# Altium schematic symbol library TI Power Management DC-DC Controller (External Switch).SchLib: 349 symbols (part 24 of 26)
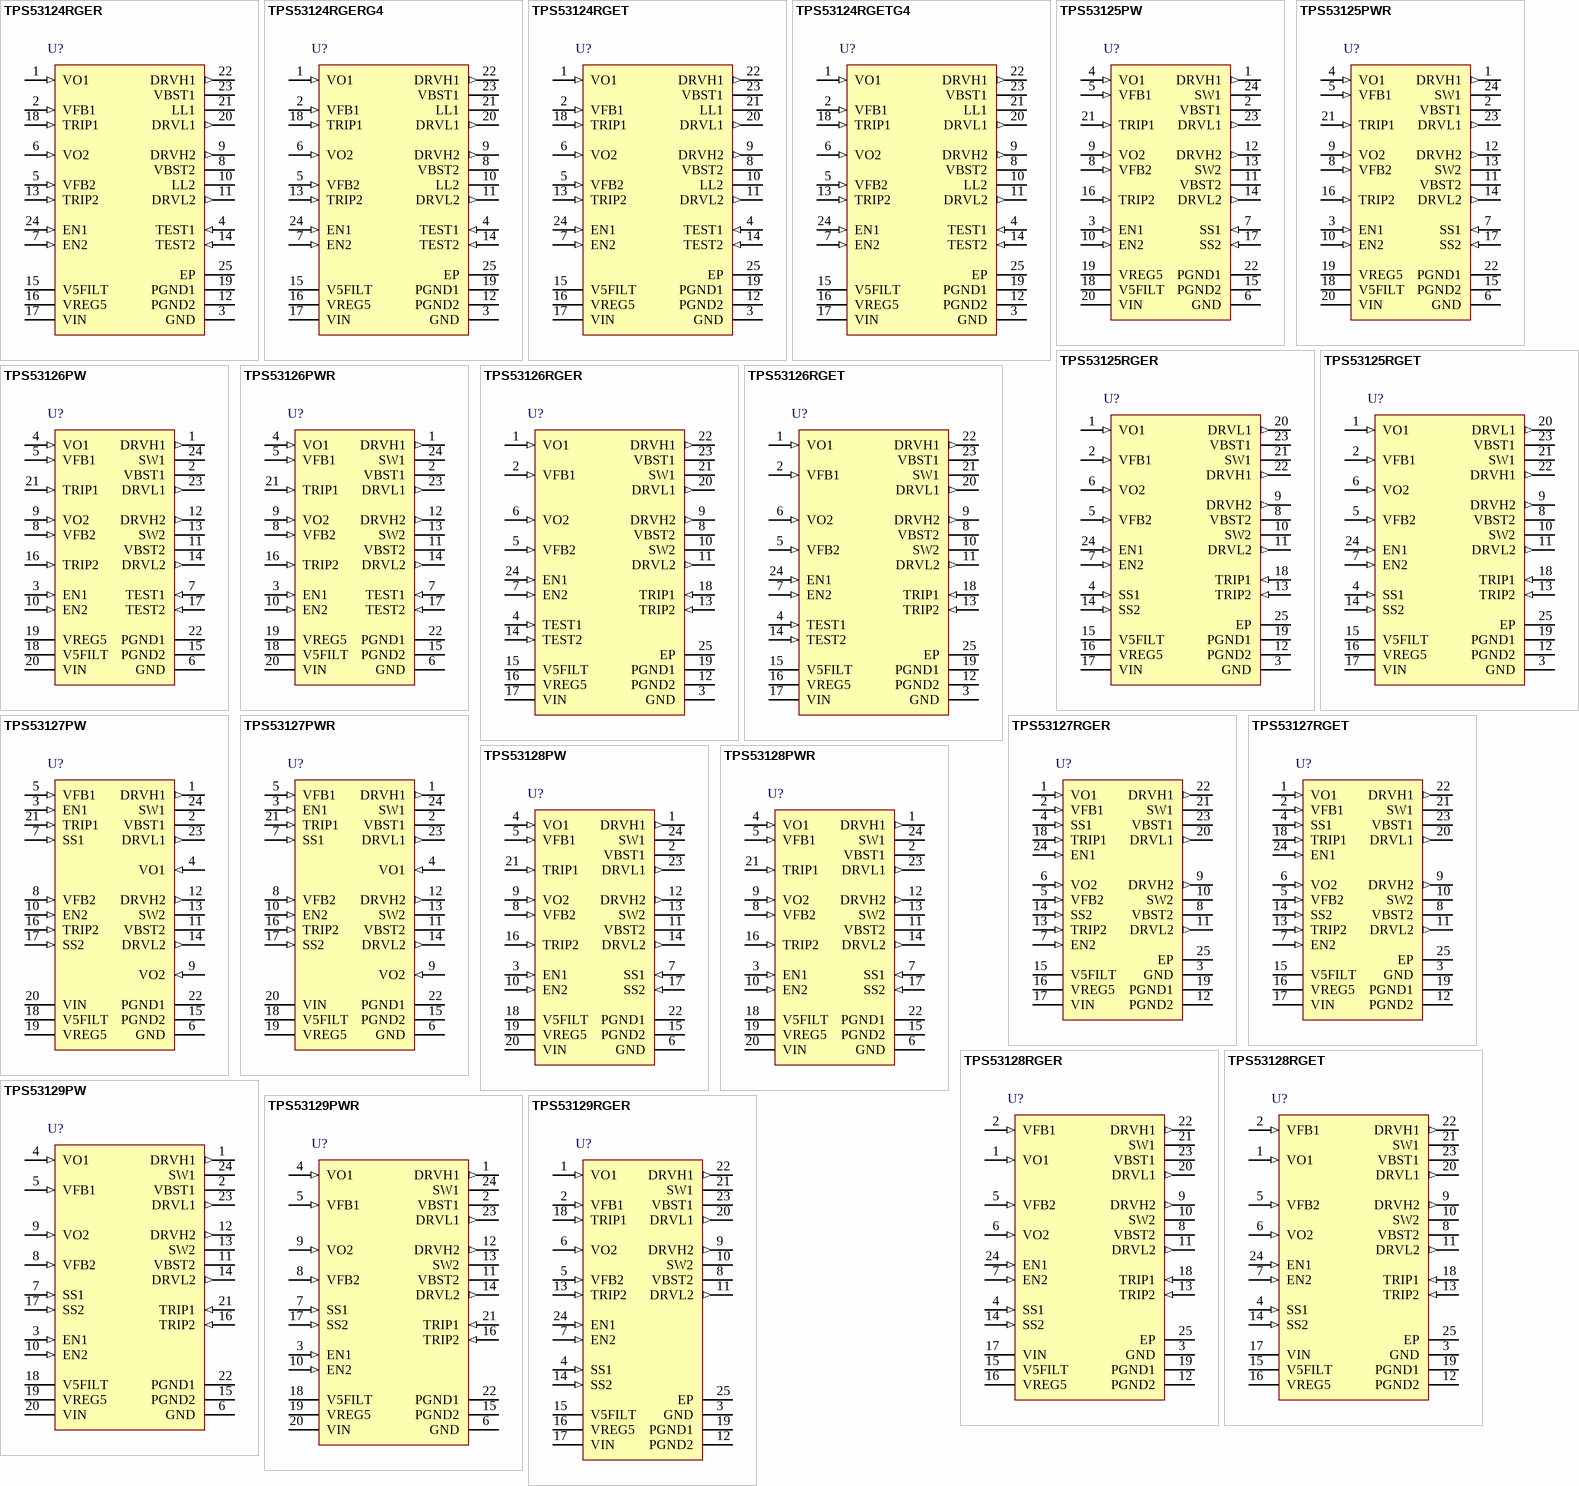
[diagram p37: symbols TPS53124RGER to TPS53129RGER]

## TPS53129PWR
designator U?
Dual Synchronous Step-Down Controller for Low Voltage Power Rails, 89 % Duty Cycle, 4.5 to 24 V, -40 to 85 degC, 24-pin TSSOP (PW), Green (RoHS & no Sb/Br); Manufacturer: Texas Instruments; PartNumber: TPS53129PWR; Duty Cycle(Max)(%): 89; Iout(Max)(A): 15; Regulated Outputs(#): 2; SubFamily: Multiple-Output Switching Controller; Switching Frequency(Max)(kHz): 700; Synchronous Rectification: TRUE; Topology: Buck, D-CAP 2 Mode"; Vin(Max)(V): 24; Vin(Min)(V): 4.5; Vout(Max)(V): 5.5; Vout(Min)(V): 0.76; DatasheetVersion: SLVSAE6; PackageVersion: revG, Feb-2011; PackageReference: PW24; PackageDescription: 24-Pin Thin Small Outline Package 0.65 mm Pitch; Supplier 1: Digi-Key; Supplier Part Number 1: 296-27799-2-ND; Eco-Plan: Green (RoHS & no Sb/Br); Iout2(A): 15; Vout2(Max)(V): 5.5; Vout2(Min)(V): 0.76; Mounting Technology: Surface Mount; Code_JEDEC: MO-153; ComponentLink1Description: Datasheet; ComponentLink1URL: http://www.ti.com/general/docs/lit/getliterature.tsp?genericPartNumber=TPS53129&fileType=pdf; ComponentLink2Description: Package Specification; ComponentLink2URL: http://www.ti.com/litv/pdf/mpds177g
footprint PW24_N (TSOP, 24-Leads, Body 7.8x4.4mm, Pitch 0.65mm, IPC Medium Density)
footprint PW24_L (TSOP, 24-Leads, Body 7.8x4.4mm, Pitch 0.65mm, IPC High Density)
footprint PW24_M (TSOP, 24-Leads, Body 7.8x4.4mm, Pitch 0.65mm, IPC Low Density)
pins: 1 DRVH1 (out) "High-side N-Channel MOSFET gate driver outputs. SWx referenced drivers  switch between SWx (OFF) and VBSTx (ON)", 2 VBST1 (power) "Supply input for high-side NFET driver .Bypass to SWx with a high-qualoty 0.1-uF ceramic capacitor ,An external schlttky diode can be added from VREG5 if forward drop is critical to drive the high-side FET.", 3 EN1 (in) "Enable. Pull High to enable SMPS.", 4 VO1 (in) "Output voltage input  for on-time adjustment and output discharge. Connect directly to the output voltage.", 5 VFB1 (in) "D-CAP2 feedback input. Connect to output voltage with resistor divider.", 6 GND (power) "Signal ground pin. Connect to PGND1, PGND2 and system ground at a single point.", 7 SS1 (in) "Soft-start programming pin. Connect capacitor from SSx pin to GND to program soft-start time.", 8 VFB2 (in) "D-CAP2 feedback input. Connect to output voltage with resistor divider.", 9 VO2 (in) "Output voltage input for on-time adjustment and output discharge. Connect directly to the output voltage.", 10 EN2 (in) "Enable. Pull High to enable SMPS.", 11 VBST2 (power) "Supply input for high-side NFET driver .Bypass to SWx with a high-qualoty 0.1-uF ceramic capacitor ,An external schlttky diode can be added from VREG5 if forward drop is critical to drive the high-side FET.", 12 DRVH2 (out) "High-side N-Channel MOSFET gate driver outputs. SWx referenced drivers switch between SWx (OFF) and VBSTx (ON)", 13 SW2 (power) "Switch node connections for both the high-side drivers and the over current comparators.", 14 DRVL2 (out) "Low-side N-Channel MOSFET gate driver output. PGND referenced drivers  switch between PGNDx (OFF) and VREG5 (ON).", 15 PGND2 (power) "Power ground connections for both the low-side driver and the over current comparator. Connect PGND1,PGND2,and GND strongly tigether near the IC.", 16 TRIP2 (in) "Over current threshold programming pin. Connect to GND with a resistor to  GND to set threshold for low-side RDS(ON) current limit.", 17 SS2 (in) "Soft-start programming pin. Connect capacitor from SSx pin to GND to program soft-start time.", 18 V5FILT (power) "5-V supply input for the entire control circuitry except the MOSFET drivers.V5FILT 15 18 I Bypass to GND with a minimum high-quality 1.0-uF ceramic capacitor. V5FILT is connected to VREG5 via an internal 10-ohm resistor", 19 VREG5 (power) "Output of 5-V linear regulator and supply for MOSFET drivers. Bypass to GND with a minimum high-quality 4.7-uF ceramic capacitor. VREG5 is connected toV5FILT via an internal 10-ohm resistor", 20 VIN (power) "Supply input for 5-V linear regulartor. Bypass to GND with a minimum high-quality 0.1-uF ceramic capacitor.", 21 TRIP1 (in) "Over current threshold programming pin. Connect to GND with a resistor to GND to set threshold for low-side RDS(ON) current limit.", 22 PGND1 (power) "Power ground connections for both the low-side driver and the over current comparator. Connect PGND1,PGND2,and GND strongly tigether near the IC.", 23 DRVL1 (out) "Low-side N-Channel MOSFET gate driver output. PGND referenced drivers  switch between PGNDx (OFF) and VREG5 (ON).", 24 SW1 (power) "Switch node connections for both the high-side drivers and the over current comparators."

## TPS53129RGER
designator U?
Dual Synchronous Step-Down Controller for Low Voltage Power Rails, 89 % Duty Cycle, 4.5 to 24 V, -40 to 85 degC, 24-pin VQFN (RGE), Green (RoHS & no Sb/Br); Manufacturer: Texas Instruments; PartNumber: TPS53129RGER; Duty Cycle(Max)(%): 89; Iout(Max)(A): 15; Regulated Outputs(#): 2; SubFamily: Multiple-Output Switching Controller; Switching Frequency(Max)(kHz): 700; Synchronous Rectification: TRUE; Topology: Buck, D-CAP 2 Mode"; Vin(Max)(V): 24; Vin(Min)(V): 4.5; Vout(Max)(V): 5.5; Vout(Min)(V): 0.76; DatasheetVersion: SLVSAE6; PackageVersion: revG, Jul-2011; PackageReference: RGE24-2450X2450TP; PackageDescription: 24-Pin Plastic Quad Flatpack No-Lead, 4 x 4 mm Body, 0.5 mm Pitch; Supplier 1: Digi-Key; Supplier Part Number 1: 296-27800-2-ND; Eco-Plan: Green (RoHS & no Sb/Br); Iout2(A): 15; Vout2(Max)(V): 5.5; Vout2(Min)(V): 0.76; Mounting Technology: Surface Mount; Code_JEDEC: MO-220; ComponentLink1Description: Datasheet; ComponentLink1URL: http://www.ti.com/general/docs/lit/getliterature.tsp?genericPartNumber=TPS53129&fileType=pdf; ComponentLink2Description: Package Specification; ComponentLink2URL: http://www.ti.com/litv/pdf/mpqf124f
footprint RGE24-2450X2450TP (QFN, 24-Leads, Body 4x4mm, Pitch 0.5mm, Thermal Pad 2.45x2.45mm, TI Recommended)
pins: 1 VO1 (in) "Output voltage inputs for on-time adjustment and output discharge. Connect directly to the output voltage.", 2 VFB1 (in) "D-CAP2 feedback inputs. Connect to output voltage with resistor divider.", 3 GND (power) "Signal ground pin. Connect to PGND1, PGND2 and system ground at a single point.", 4 SS1 (in) "Soft-start programming pin. Connect capacitor from SSx pin to GND to program soft-start time.", 5 VFB2 (in) "D-CAP2 feedback inputs. Connect to output voltage with resistor divider.", 6 VO2 (in) "Output voltage inputs for on-time adjustment and output discharge. Connect directly to the output voltage.", 7 EN2 (in) "Enable. Pull High to enable SMPS.", 8 VBST2 (power) "Supply input for high-side NFET driver. Bypass to SWx with a high-quality 0.1-uF ceramic capacitor. An external schottky diode can be added from VREG5 if forward drop is critical to drive the high-side FET.", 9 DRVH2 (out) "High-side N-Channel MOSFET gate driver outputs. SWx referenced drivers switch between SWx (OFF) and VBSTx (ON).", 10 SW2 (power) "Switch node connections for both the high-side drivers and the over current comparators.", 11 DRVL2 (out) "Low-side N-Channel MOSFET gate driver outputs. PGND referenced drivers switch between PGNDx (OFF) and VREG5 (ON).", 12 PGND2 (power) "Power ground connections for both the low-side drivers and the over current comparators. Connect PGND1, PGND2 and GND strongly together near the IC.", 13 TRIP2 (in) "Over current threshold programming pin. Connect to GND with a resistor to GND to set threshold for low-side RDS(ON) current limit.", 14 SS2 (in) "Soft-start programming pin. Connect capacitor from SSx pin to GND to program soft-start time.", 15 V5FILT (power) "5-V supply input for the entire control circuitry except the MOSFET drivers. Bypass to GND with a minimum high-quality 1.0-uF ceramic capacitor. V5FILT is connected to VREG5 via an internal 10-ohm resistor.", 16 VREG5 (power) "Output of 5-V linear regulator and supply for MOSFET drivers. Bypass to GND with a minimum high-quality 4.7-uF ceramic capacitor. VREG5 is connected to V5FILT via an internal 10-ohm resistor.", 17 VIN (power) "Supply Input for 5-V linear regulator. Bypass to GND with a minimum high-quality 0.1-uF ceramic capacitor.", 18 TRIP1 (in) "Over current threshold programming pin. Connect to GND with a resistor to GND to set threshold for low-side RDS(ON) current limit.", 19 PGND1 (power) "Power ground connections for both the low-side drivers and the over current comparators. Connect PGND1, PGND2 and GND strongly together near the IC.", 20 DRVL1 (out) "Low-side N-Channel MOSFET gate driver outputs. PGND referenced drivers switch between PGNDx (OFF) and VREG5 (ON).", 21 SW1 (power) "Switch node connections for both the high-side drivers and the over current comparators.", 22 DRVH1 (out) "High-side N-Channel MOSFET gate driver outputs. SWx referenced drivers switch between SWx (OFF) and VBSTx (ON).", 23 VBST1 (power) "Supply input for high-side NFET driver. Bypass to SWx with a high-quality 0.1-uF ceramic capacitor. An external schottky diode can be added from VREG5 if forward drop is critical to drive the high-side FET.", 24 EN1 (in) "Enable. Pull High to enable SMPS.", 25 EP

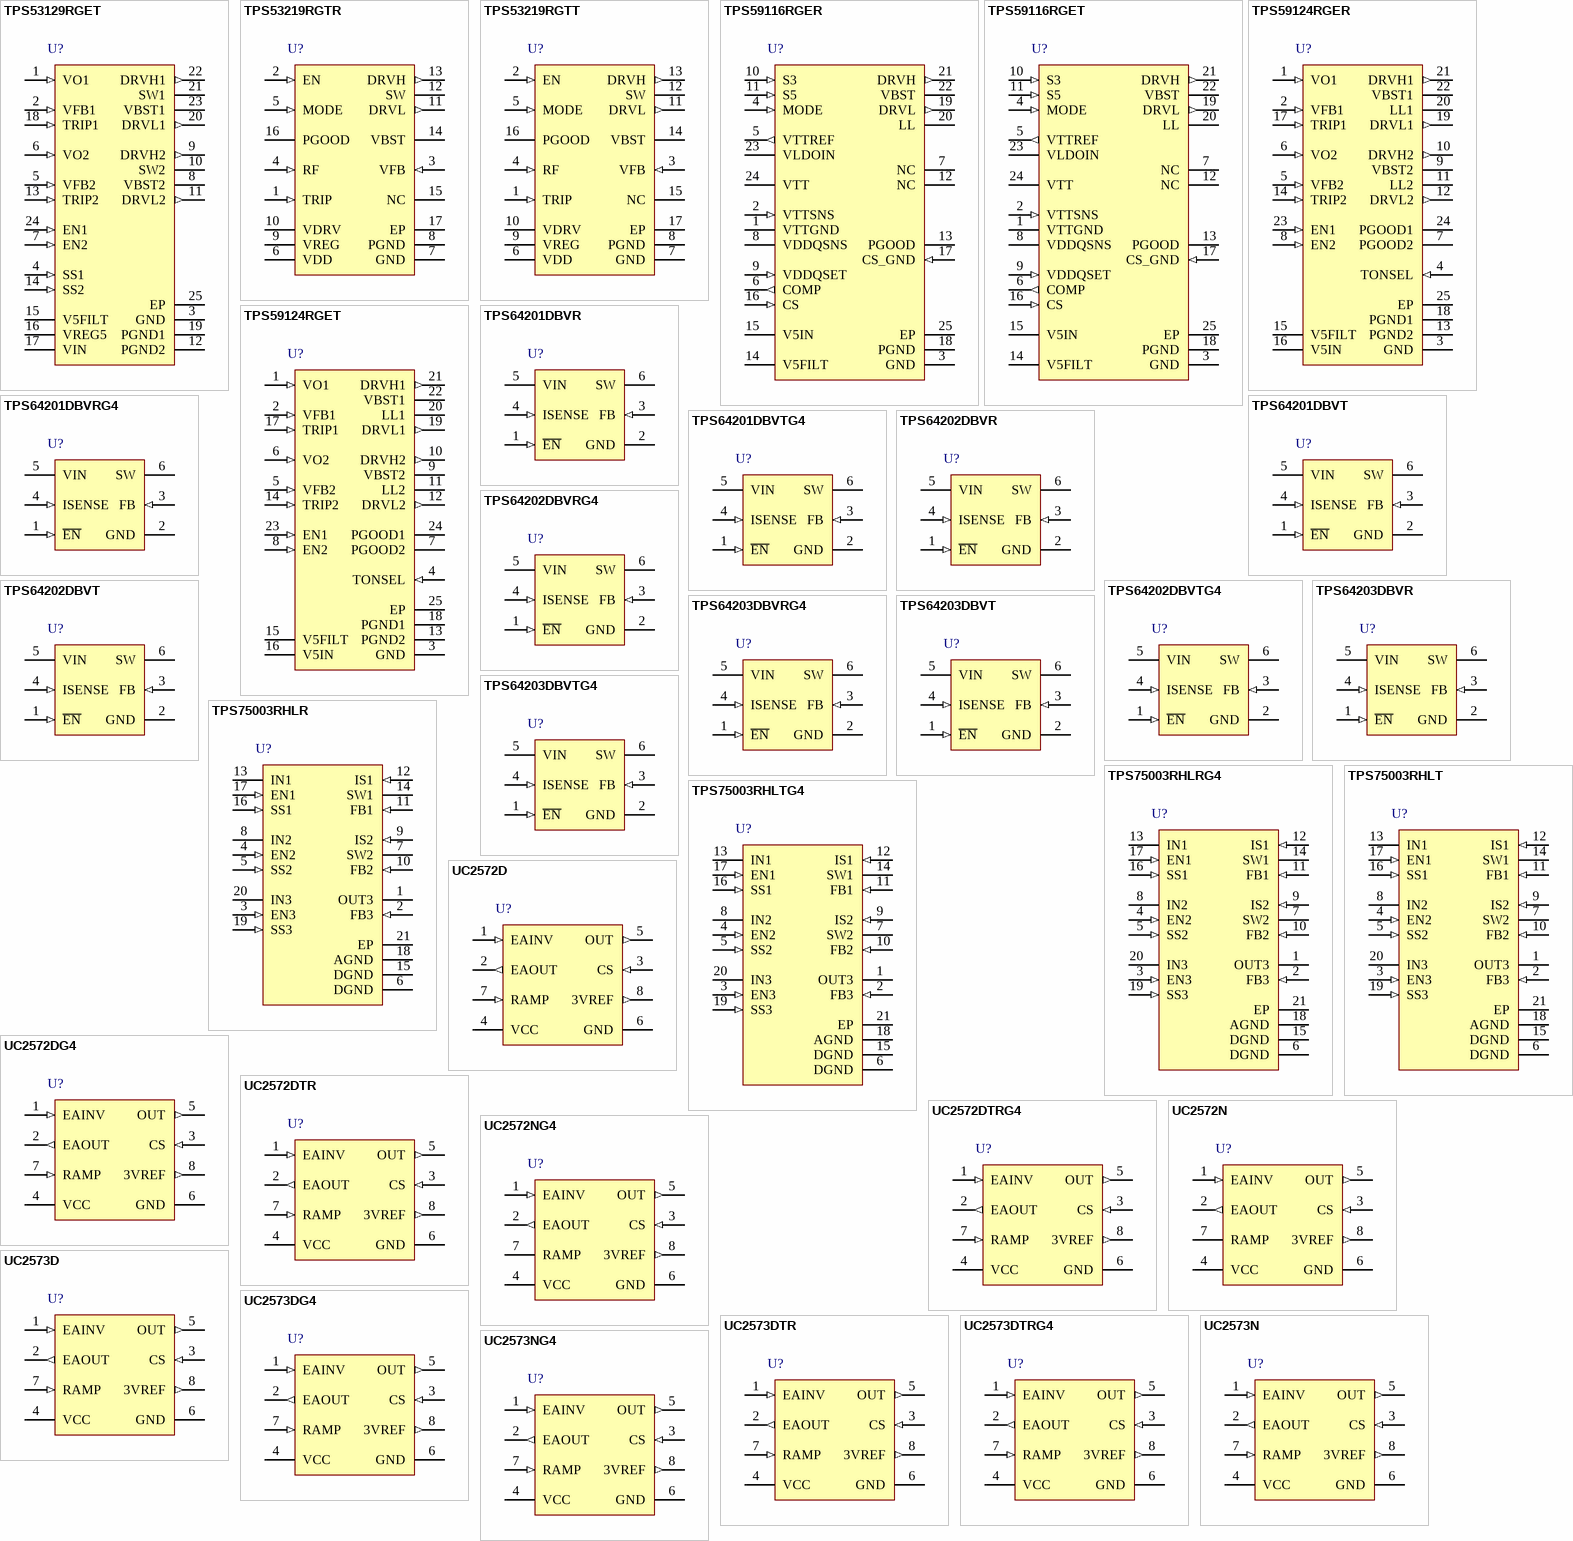
[diagram p13: symbols TPS53129RGET to UC2573NG4]

## TPS53129RGET
designator U?
Dual Synchronous Step-Down Controller for Low Voltage Power Rails, 89 % Duty Cycle, 4.5 to 24 V, -40 to 85 degC, 24-pin VQFN (RGE), Green (RoHS & no Sb/Br); Manufacturer: Texas Instruments; PartNumber: TPS53129RGET; Duty Cycle(Max)(%): 89; Iout(Max)(A): 15; Regulated Outputs(#): 2; SubFamily: Multiple-Output Switching Controller; Switching Frequency(Max)(kHz): 700; Synchronous Rectification: TRUE; Topology: Buck, D-CAP 2 Mode"; Vin(Max)(V): 24; Vin(Min)(V): 4.5; Vout(Max)(V): 5.5; Vout(Min)(V): 0.76; DatasheetVersion: SLVSAE6; PackageVersion: revG, Jul-2011; PackageReference: RGE24-2450X2450TP; PackageDescription: 24-Pin Plastic Quad Flatpack No-Lead, 4 x 4 mm Body, 0.5 mm Pitch; Supplier 1: Digi-Key; Supplier Part Number 1: TPS53129RGET-ND; Eco-Plan: Green (RoHS & no Sb/Br); Iout2(A): 15; Vout2(Max)(V): 5.5; Vout2(Min)(V): 0.76; Mounting Technology: Surface Mount; Code_JEDEC: MO-220; ComponentLink1Description: Datasheet; ComponentLink1URL: http://www.ti.com/general/docs/lit/getliterature.tsp?genericPartNumber=TPS53129&fileType=pdf; ComponentLink2Description: Package Specification; ComponentLink2URL: http://www.ti.com/litv/pdf/mpqf124f
footprint RGE24-2450X2450TP (QFN, 24-Leads, Body 4x4mm, Pitch 0.5mm, Thermal Pad 2.45x2.45mm, TI Recommended)
pins: 1 VO1 (in) "Output voltage inputs for on-time adjustment and output discharge. Connect directly to the output voltage.", 2 VFB1 (in) "D-CAP2 feedback inputs. Connect to output voltage with resistor divider.", 3 GND (power) "Signal ground pin. Connect to PGND1, PGND2 and system ground at a single point.", 4 SS1 (in) "Soft-start programming pin. Connect capacitor from SSx pin to GND to program soft-start time.", 5 VFB2 (in) "D-CAP2 feedback inputs. Connect to output voltage with resistor divider.", 6 VO2 (in) "Output voltage inputs for on-time adjustment and output discharge. Connect directly to the output voltage.", 7 EN2 (in) "Enable. Pull High to enable SMPS.", 8 VBST2 (power) "Supply input for high-side NFET driver. Bypass to SWx with a high-quality 0.1-uF ceramic capacitor. An external schottky diode can be added from VREG5 if forward drop is critical to drive the high-side FET.", 9 DRVH2 (out) "High-side N-Channel MOSFET gate driver outputs. SWx referenced drivers switch between SWx (OFF) and VBSTx (ON).", 10 SW2 (power) "Switch node connections for both the high-side drivers and the over current comparators.", 11 DRVL2 (out) "Low-side N-Channel MOSFET gate driver outputs. PGND referenced drivers switch between PGNDx (OFF) and VREG5 (ON).", 12 PGND2 (power) "Power ground connections for both the low-side drivers and the over current comparators. Connect PGND1, PGND2 and GND strongly together near the IC.", 13 TRIP2 (in) "Over current threshold programming pin. Connect to GND with a resistor to GND to set threshold for low-side RDS(ON) current limit.", 14 SS2 (in) "Soft-start programming pin. Connect capacitor from SSx pin to GND to program soft-start time.", 15 V5FILT (power) "5-V supply input for the entire control circuitry except the MOSFET drivers. Bypass to GND with a minimum high-quality 1.0-uF ceramic capacitor. V5FILT is connected to VREG5 via an internal 10-ohm resistor.", 16 VREG5 (power) "Output of 5-V linear regulator and supply for MOSFET drivers. Bypass to GND with a minimum high-quality 4.7-uF ceramic capacitor. VREG5 is connected to V5FILT via an internal 10-ohm resistor.", 17 VIN (power) "Supply Input for 5-V linear regulator. Bypass to GND with a minimum high-quality 0.1-uF ceramic capacitor.", 18 TRIP1 (in) "Over current threshold programming pin. Connect to GND with a resistor to GND to set threshold for low-side RDS(ON) current limit.", 19 PGND1 (power) "Power ground connections for both the low-side drivers and the over current comparators. Connect PGND1, PGND2 and GND strongly together near the IC.", 20 DRVL1 (out) "Low-side N-Channel MOSFET gate driver outputs. PGND referenced drivers switch between PGNDx (OFF) and VREG5 (ON).", 21 SW1 (power) "Switch node connections for both the high-side drivers and the over current comparators.", 22 DRVH1 (out) "High-side N-Channel MOSFET gate driver outputs. SWx referenced drivers switch between SWx (OFF) and VBSTx (ON).", 23 VBST1 (power) "Supply input for high-side NFET driver. Bypass to SWx with a high-quality 0.1-uF ceramic capacitor. An external schottky diode can be added from VREG5 if forward drop is critical to drive the high-side FET.", 24 EN1 (in) "Enable. Pull High to enable SMPS.", 25 EP

## TPS53219RGTR
designator U?
4.5 to 28 V Input Synchronous Step Down Controller with EcoMode, 4.5 to 28 V, -40 to 85 degC, 16-pin QFN (RGT), Green (RoHS & no Sb/Br); Manufacturer: Texas Instruments; PartNumber: TPS53219RGTR; Iout(Max)(A): 20; Regulated Outputs(#): 1; SubFamily: Step-Down Controller; Topology: Buck; Vin(Max)(V): 28; Vin(Min)(V): 4.5; Vout(Max)(V): 5.5; Vout(Min)(V): 0.6; DatasheetVersion: SLUSAA8; PackageVersion: revH, Oct-2011; PackageReference: RGT16-1450X1450TP; PackageDescription: 16-Pin Plastic Quad Flat No-Lead, 3 x 3 mm Body, 0.5 mm Pitch, 1.45 x 1.45 mm Exposed Pad; Supplier 1: Digi-Key; Supplier Part Number 1: 296-28312-2-ND; Eco-Plan: Green (RoHS & no Sb/Br); Mounting Technology: Surface Mount; Code_JEDEC: MO-220; ComponentLink1Description: Datasheet; ComponentLink1URL: http://www.ti.com/general/docs/lit/getliterature.tsp?genericPartNumber=TPS53219&fileType=pdf; ComponentLink2Description: Package Specification; ComponentLink2URL: http://www.ti.com/litv/pdf/mpqf119g
footprint RGT16-1450X1450TP (QFN, 16-Leads, Body 3x3mm, Pitch 0.5mm, Thermal Pad 1.45x1.45mm, TI Recommended)
pins: 1 TRIP (in) "OCL detection threshold setting pin. 10 uA at room temp, 4700ppm/degreesC current is sourced and set the OCL trip voltage as follows. VOCL=VTRIP/8 spacer ( VTRIP =< 3 V, VOCL =< 375 mV)", 2 EN (in) "Enable pin", 3 VFB (in) "Output feedback input. Connect this pin to VOUT through a resistor divider.", 4 RF (in) "Switching frequency selection. Connect a resistor to GND or VREG to select switching frequency using Table 2. The switching frequency is detected and stored during the startup.", 5 MODE (in) "Soft-start and Skip/CCM selection. Connect a resistor to select soft-start time using Table 1 . The soft-start time is detected and stored into internal register during start-up.", 6 VDD (power) "Controller power supply input.", 7 GND (power) "Ground pin", 8 PGND (power) "Power ground.", 9 VREG (power) "6.2-V LDO output", 10 VDRV (power) "Gate drive supply voltage input. Connect to VREG if using LDO output as gate drive supply.", 11 DRVL (out) "Synchronous MOSFET driver output. The PGND referenced driver. The gate drive voltage is defined by VDRV voltage.", 12 SW (power) "Output of converted power. Connect this pin to the output inductor.", 13 DRVH (out) "High-side MOSFET driver output. The SW node referenced floating driver. The gate drive voltage is defined by the voltage across VBST to SW node bootstrap flying capacitor.", 14 VBST (power) "Supply input for high-side FET gate driver (boost terminal). Connect a capacitor from this pin to SW-node. Internally connected to VREG via bootstrap MOSFET switch.", 15 NC "No connection.", 16 PGOOD (oc) "Open drain power good flag. Provides 1-ms start up delay after the VFB pin voltage falls within specified limits. When VFB goes out specified limits PGOOD goes low within 10 us.", 17 EP "Exposed Thermal Pad."

## TPS53219RGTT
designator U?
4.5 to 28 V Input Synchronous Step Down Controller with EcoMode, -40 to 85 degC, 16-pin QFN (RGT), Green (RoHS & no Sb/Br); Manufacturer: Texas Instruments; PartNumber: TPS53219RGTT; Iout(Max)(A): 20; Regulated Outputs(#): 1; SubFamily: Step-Down Controller; Topology: Buck; Vin(Max)(V): 28; Vin(Min)(V): 4.5; Vout(Max)(V): 5.5; Vout(Min)(V): 0.6; DatasheetVersion: SLUSAA8; PackageVersion: revH, Oct-2011; PackageReference: RGT16-1450X1450TP; PackageDescription: 16-Pin Plastic Quad Flat No-Lead, 3 x 3 mm Body, 0.5 mm Pitch, 1.45 x 1.45 mm Exposed Pad; Supplier 1: Digi-Key; Supplier Part Number 1: 296-28055-2-ND; Eco-Plan: Green (RoHS & no Sb/Br); Mounting Technology: Surface Mount; Code_JEDEC: MO-220; ComponentLink1Description: Datasheet; ComponentLink1URL: http://www.ti.com/general/docs/lit/getliterature.tsp?genericPartNumber=TPS53219&fileType=pdf; ComponentLink2Description: Package Specification; ComponentLink2URL: http://www.ti.com/litv/pdf/mpqf119g
footprint RGT16-1450X1450TP (QFN, 16-Leads, Body 3x3mm, Pitch 0.5mm, Thermal Pad 1.45x1.45mm, TI Recommended)
pins: 1 TRIP (in) "OCL detection threshold setting pin. 10 uA at room temp, 4700ppm/degreesC current is sourced and set the OCL trip voltage as follows. VOCL=VTRIP/8 spacer ( VTRIP =< 3 V, VOCL =< 375 mV)", 2 EN (in) "Enable pin", 3 VFB (in) "Output feedback input. Connect this pin to VOUT through a resistor divider.", 4 RF (in) "Switching frequency selection. Connect a resistor to GND or VREG to select switching frequency using Table 2. The switching frequency is detected and stored during the startup.", 5 MODE (in) "Soft-start and Skip/CCM selection. Connect a resistor to select soft-start time using Table 1 . The soft-start time is detected and stored into internal register during start-up.", 6 VDD (power) "Controller power supply input.", 7 GND (power) "Ground pin", 8 PGND (power) "Power ground.", 9 VREG (power) "6.2-V LDO output", 10 VDRV (power) "Gate drive supply voltage input. Connect to VREG if using LDO output as gate drive supply.", 11 DRVL (out) "Synchronous MOSFET driver output. The PGND referenced driver. The gate drive voltage is defined by VDRV voltage.", 12 SW (power) "Output of converted power. Connect this pin to the output inductor.", 13 DRVH (out) "High-side MOSFET driver output. The SW node referenced floating driver. The gate drive voltage is defined by the voltage across VBST to SW node bootstrap flying capacitor.", 14 VBST (power) "Supply input for high-side FET gate driver (boost terminal). Connect a capacitor from this pin to SW-node. Internally connected to VREG via bootstrap MOSFET switch.", 15 NC "No connection.", 16 PGOOD (oc) "Open drain power good flag. Provides 1-ms start up delay after the VFB pin voltage falls within specified limits. When VFB goes out specified limits PGOOD goes low within 10 us.", 17 EP "Exposed Thermal Pad."

## TPS59116RGER
designator U?
Complete DDR, DDR2, and DDR3 Memory Power Solution, SynchronousBuck Controller for Embedded Computing, 3 to 28 V, -40 to 85 degC, 24-pin VQFN (RGE), Green (RoHS & no Sb/Br); Manufacturer: Texas Instruments; PartNumber: TPS59116RGER; Regulated Outputs(#): 2; SubFamily: Step-Down Controller; Switching Frequency(Max)(kHz): 400; Topology: D-CAP™ Mode; Vin(Max)(V): 28; Vin(Min)(V): 3; Vout(Min)(V): 0.75; DatasheetVersion: SLUSA57; PackageVersion: revG, Jul-2011; PackageReference: RGE24-2450X2450TP; PackageDescription: 24-Pin Plastic Quad Flatpack No-Lead, 4 x 4 mm Body, 0.5 mm Pitch; Supplier 1: Digi-Key; Supplier Part Number 1: TPS59116RGER-ND; Eco-Plan: Green (RoHS & no Sb/Br); Vout(Max)(V): 3; Mounting Technology: Surface Mount; Code_JEDEC: MO-220; ComponentLink1Description: Datasheet; ComponentLink1URL: http://www.ti.com/general/docs/lit/getliterature.tsp?genericPartNumber=TPS59116&fileType=pdf; ComponentLink2Description: Package Specification; ComponentLink2URL: http://www.ti.com/litv/pdf/mpqf124f
footprint RGE24-2450X2450TP (QFN, 24-Leads, Body 4x4mm, Pitch 0.5mm, Thermal Pad 2.45x2.45mm, TI Recommended)
pins: 1 VTTGND (power) "Power ground output for the VTT LDO.", 2 VTTSNS (in) "Voltage sense input for the VTT LDO. Connect to plus terminal of the VTT LDO output capacitor", 3 GND (power) "Signal ground. Connect to minus terminal of the VTT LDO output capacitor.", 4 MODE (in) "Discharge mode setting pin. See VDDQ and VTT Discharge Control section.", 5 VTTREF (out) "VTTREF buffered reference output.", 6 COMP (out) "Output of the transconductance amplifier for phase compensation. Connect to V5IN to disable gm amplifier and use D-CAP mode.", 7 NC "No connect.", 8 VDDQSNS "VDDQ reference input for VTT and VTTREF. Power supply for the VTTREF. Discharge current sinking terminal for VDDQ Non-tracking discharge. Output voltage feedback input for VDDQ output if VDDQSET pin is connected to V5IN or (See Datasheet)", 9 VDDQSET (in) "VDDQ output voltage setting pin. See VDDQ Output Voltage Selection section.", 10 S3 (in) "S3 signal input.", 11 S5 (in) "S5 signal input.", 12 NC "No connect.", 13 PGOOD (oc) "Powergood signal open drain output, In HIGH state when VDDQ output voltage is within the target range.", 14 V5FILT (power) "Filtered 5-V power supply input for internal circuits. Connect R-C network from V5IN to V5FILT.", 15 V5IN (power) "5-V power supply input for MOSFET gate drivers.", 16 CS (in) "Current sense comparator input (-) for resistor current sense scheme. Or overcurrent trip voltage setting input for RDS(on) current sense scheme if connected to V5FILT through the voltage setting resistor.", 17 CS_GND (in) "Current sense comparator input (+) and ground for powergood circuit.", 18 PGND (power) "Ground for rectifying (bottom) MOSFET gate driver.", 19 DRVL (out) "Rectifying (bottom) MOSFET gate drive output.", 20 LL (power) "Switching (top) MOSFET gate driver return. Current sense comparator input (-) for RDS(on) current sense.", 21 DRVH (out) "Switching (top) MOSFET gate drive output.", 22 VBST (power) "Switching (top) MOSFET driver bootstrap voltage input.", 23 VLDOIN (power) "Power supply for the VTT LDO.", 24 VTT (power) "Power output for the VTT LDO.", 25 EP (power) "The Thermal Pad."

## TPS59116RGET
designator U?
Complete DDR, DDR2, and DDR3 Memory Power Solution, SynchronousBuck Controller for Embedded Computing, 3 to 28 V, -40 to 85 degC, 24-pin VQFN (RGE), Green (RoHS & no Sb/Br); Manufacturer: Texas Instruments; PartNumber: TPS59116RGET; Regulated Outputs(#): 2; SubFamily: Step-Down Controller; Switching Frequency(Max)(kHz): 400; Topology: D-CAP™ Mode; Vin(Max)(V): 28; Vin(Min)(V): 3; Vout(Min)(V): 0.75; DatasheetVersion: SLUSA57; PackageVersion: revG, Jul-2011; PackageReference: RGE24-2450X2450TP; PackageDescription: 24-Pin Plastic Quad Flatpack No-Lead, 4 x 4 mm Body, 0.5 mm Pitch; Supplier 1: Digi-Key; Supplier Part Number 1: 296-27767-2-ND; Eco-Plan: Green (RoHS & no Sb/Br); Vout(Max)(V): 3; Mounting Technology: Surface Mount; Code_JEDEC: MO-220; ComponentLink1Description: Datasheet; ComponentLink1URL: http://www.ti.com/general/docs/lit/getliterature.tsp?genericPartNumber=TPS59116&fileType=pdf; ComponentLink2Description: Package Specification; ComponentLink2URL: http://www.ti.com/litv/pdf/mpqf124f
footprint RGE24-2450X2450TP (QFN, 24-Leads, Body 4x4mm, Pitch 0.5mm, Thermal Pad 2.45x2.45mm, TI Recommended)
pins: 1 VTTGND (power) "Power ground output for the VTT LDO.", 2 VTTSNS (in) "Voltage sense input for the VTT LDO. Connect to plus terminal of the VTT LDO output capacitor", 3 GND (power) "Signal ground. Connect to minus terminal of the VTT LDO output capacitor.", 4 MODE (in) "Discharge mode setting pin. See VDDQ and VTT Discharge Control section.", 5 VTTREF (out) "VTTREF buffered reference output.", 6 COMP (out) "Output of the transconductance amplifier for phase compensation. Connect to V5IN to disable gm amplifier and use D-CAP mode.", 7 NC "No connect.", 8 VDDQSNS "VDDQ reference input for VTT and VTTREF. Power supply for the VTTREF. Discharge current sinking terminal for VDDQ Non-tracking discharge. Output voltage feedback input for VDDQ output if VDDQSET pin is connected to V5IN or (See Datasheet)", 9 VDDQSET (in) "VDDQ output voltage setting pin. See VDDQ Output Voltage Selection section.", 10 S3 (in) "S3 signal input.", 11 S5 (in) "S5 signal input.", 12 NC "No connect.", 13 PGOOD (oc) "Powergood signal open drain output, In HIGH state when VDDQ output voltage is within the target range.", 14 V5FILT (power) "Filtered 5-V power supply input for internal circuits. Connect R-C network from V5IN to V5FILT.", 15 V5IN (power) "5-V power supply input for MOSFET gate drivers.", 16 CS (in) "Current sense comparator input (-) for resistor current sense scheme. Or overcurrent trip voltage setting input for RDS(on) current sense scheme if connected to V5FILT through the voltage setting resistor.", 17 CS_GND (in) "Current sense comparator input (+) and ground for powergood circuit.", 18 PGND (power) "Ground for rectifying (bottom) MOSFET gate driver.", 19 DRVL (out) "Rectifying (bottom) MOSFET gate drive output.", 20 LL (power) "Switching (top) MOSFET gate driver return. Current sense comparator input (-) for RDS(on) current sense.", 21 DRVH (out) "Switching (top) MOSFET gate drive output.", 22 VBST (power) "Switching (top) MOSFET driver bootstrap voltage input.", 23 VLDOIN (power) "Power supply for the VTT LDO.", 24 VTT (power) "Power output for the VTT LDO.", 25 EP (power) "The Thermal Pad."

## TPS59124RGER
designator U?
Dual Synchronous Step-Down Controller for Low Voltage Power Rails in Embedded Computing, 3 to 28 V, -40 to 85 degC, 24-pin VQFN (RGE), Green (RoHS & no Sb/Br); Manufacturer: Texas Instruments; PartNumber: TPS59124RGER; Regulated Outputs(#): 2; SubFamily: Multiple-Output Switching Controller; Switching Frequency(Max)(kHz): 420; Topology: D-CAP Mode; Vin(Max)(V): 28; Vin(Min)(V): 3; Vout(Max)(V): 5.5; Vout(Min)(V): 0.76; DatasheetVersion: SLUSA58; PackageVersion: revG, Jul-2011; PackageReference: RGE24-2450X2450TP; PackageDescription: 24-Pin Plastic Quad Flatpack No-Lead, 4 x 4 mm Body, 0.5 mm Pitch; Supplier 1: Digi-Key; Supplier Part Number 1: TPS59124RGER-ND; Eco-Plan: Green (RoHS & no Sb/Br); Mounting Technology: Surface Mount; Code_JEDEC: MO-220; ComponentLink1Description: Datasheet; ComponentLink1URL: http://www.ti.com/general/docs/lit/getliterature.tsp?genericPartNumber=TPS59124&fileType=pdf; ComponentLink2Description: Package Specification; ComponentLink2URL: http://www.ti.com/litv/pdf/mpqf124f
footprint RGE24-2450X2450TP (QFN, 24-Leads, Body 4x4mm, Pitch 0.5mm, Thermal Pad 2.45x2.45mm, TI Recommended)
pins: 1 VO1 (in) "Output connections to SMPS. This terminal serve two functions: On-time adjustment and output discharge.", 2 VFB1 (in) "SMPS voltage feedback input. Connect with feedback resistor divider.", 3 GND (power) "Signal ground pin", 4 TONSEL (in) "On-time selection pin.", 5 VFB2 (in) "SMPS voltage feedback input. Connect with feedback resistor divider.", 6 VO2 (in) "Output connections to SMPS. This terminal serve two functions: On-time adjustment and output  discharge.", 7 PGOOD2 (oc) "Power Good window comparator open drain output for channel 2. Pull up with a resistor to 5 V, or appropriate signal voltage. Current capability is 5 mA. PGOOD goes high 0.5 ms after VFB comes within specified limits. Power (See Datasheet)", 8 EN2 (in) "Channel 2 enable pin. Connect to 5 V or 3.3 V to turn on SMPS", 9 VBST2 (power) "Supply input for synchronous high-side MOSFET driver (Boost Terminal). Connect capacitor from this pin to respective LL terminals. An internal PN diode is connected between V5IN to each of these pins. User can add external (See Datasheet)", 10 DRVH2 (out) "Synchronous high-side MOSFET driver output. LL node referenced floating drivers. The gate drive voltage is defined by the voltage across VBST to LL node flying capacitor.", 11 LL2 (power) "Switch node connections for high-side drivers return. Also serve as input to current comparators and input voltage monitor for on-time control circuitry.", 12 DRVL2 (out) "Synchronous low-side MOSFET driver output. PGND referenced drivers. The gate drive voltage is defined by V5IN voltage.", 13 PGND2 (power) "Ground returns for DRVL1 and DRVL2. Also serve as input of current comparators. Connect PGND1, PGND2, and GND strongly together near the IC. Output discharge current flows through this pin, also.", 14 TRIP2 (in) "Over-current trip point set input. Connect resistor from this pin to GND to set threshold for synchronous low-side RDS(on) sense. Voltage across this pin and GND is compared to voltage across PGND and LL at over-current (See Datasheet)", 15 V5FILT (power) "5-V power supply input for the entire control circuit except the MOSFET drivers. Connect RC low-pass filter from V5IN to V5FILT.", 16 V5IN (power) "5-V power supply input for FET gate drivers. Internally connected to VBSTx by PN diodes.", 17 TRIP1 (in) "Over-current trip point set input. Connect resistor from this pin to GND to set threshold for synchronous low-side RDS(on) sense. Voltage across this pin and GND is compared to voltage across PGND and LL at over-current (See Datasheet)", 18 PGND1 (power) "Ground returns for DRVL1 and DRVL2. Also serve as input of current comparators. Connect PGND1, PGND2, and GND strongly together near the IC. Output discharge current flows through this pin, also.", 19 DRVL1 (out) "Synchronous low-side MOSFET driver output. PGND referenced drivers. The gate drive voltage is defined by V5IN voltage.", 20 LL1 (power) "Switch node connections for high-side drivers return. Also serve as input to current comparators and input voltage monitor for on-time control circuitry.", 21 DRVH1 (out) "Synchronous high-side MOSFET driver output. LL node referenced floating drivers. The gate drive voltage is defined by the voltage across VBST to LL node flying capacitor.", 22 VBST1 (power) "Supply input for synchronous high-side MOSFET driver (Boost Terminal). Connect capacitor from this pin to respective LL terminals. An internal PN diode is connected between V5IN to each of these pins. User can add external (See Datasheet)", 23 EN1 (in) "Channel 1 enable pin. Connect to 5 V or 3.3 V to turn on SMPS", 24 PGOOD1 (oc) "Power Good window comparator open drain output for channel 1. Pull up with a resistor to 5 V, or appropriate signal voltage. Current capability is 5 mA. PGOOD goes high 0.5 ms after VFB comes within specified limits. Power (See Datasheet)", 25 EP "Exposed Thermal Pad."

## TPS59124RGET
designator U?
Dual Synchronous Step-Down Controller for Low Voltage Power Rails in Embedded Computing, 3 to 28 V, -40 to 85 degC, 24-pin VQFN (RGE), Green (RoHS & no Sb/Br); Manufacturer: Texas Instruments; PartNumber: TPS59124RGET; Regulated Outputs(#): 2; SubFamily: Multiple-Output Switching Controller; Switching Frequency(Max)(kHz): 420; Topology: D-CAP Mode; Vin(Max)(V): 28; Vin(Min)(V): 3; Vout(Max)(V): 5.5; Vout(Min)(V): 0.76; DatasheetVersion: SLUSA58; PackageVersion: revG, Jul-2011; PackageReference: RGE24-2450X2450TP; PackageDescription: 24-Pin Plastic Quad Flatpack No-Lead, 4 x 4 mm Body, 0.5 mm Pitch; Supplier 1: Digi-Key; Supplier Part Number 1: 296-27718-2-ND; Eco-Plan: Green (RoHS & no Sb/Br); Mounting Technology: Surface Mount; Code_JEDEC: MO-220; ComponentLink1Description: Datasheet; ComponentLink1URL: http://www.ti.com/general/docs/lit/getliterature.tsp?genericPartNumber=TPS59124&fileType=pdf; ComponentLink2Description: Package Specification; ComponentLink2URL: http://www.ti.com/litv/pdf/mpqf124f
footprint RGE24-2450X2450TP (QFN, 24-Leads, Body 4x4mm, Pitch 0.5mm, Thermal Pad 2.45x2.45mm, TI Recommended)
pins: 1 VO1 (in) "Output connections to SMPS. This terminal serve two functions: On-time adjustment and output discharge.", 2 VFB1 (in) "SMPS voltage feedback input. Connect with feedback resistor divider.", 3 GND (power) "Signal ground pin", 4 TONSEL (in) "On-time selection pin.", 5 VFB2 (in) "SMPS voltage feedback input. Connect with feedback resistor divider.", 6 VO2 (in) "Output connections to SMPS. This terminal serve two functions: On-time adjustment and output  discharge.", 7 PGOOD2 (oc) "Power Good window comparator open drain output for channel 2. Pull up with a resistor to 5 V, or appropriate signal voltage. Current capability is 5 mA. PGOOD goes high 0.5 ms after VFB comes within specified limits. Power (See Datasheet)", 8 EN2 (in) "Channel 2 enable pin. Connect to 5 V or 3.3 V to turn on SMPS", 9 VBST2 (power) "Supply input for synchronous high-side MOSFET driver (Boost Terminal). Connect capacitor from this pin to respective LL terminals. An internal PN diode is connected between V5IN to each of these pins. User can add external (See Datasheet)", 10 DRVH2 (out) "Synchronous high-side MOSFET driver output. LL node referenced floating drivers. The gate drive voltage is defined by the voltage across VBST to LL node flying capacitor.", 11 LL2 (power) "Switch node connections for high-side drivers return. Also serve as input to current comparators and input voltage monitor for on-time control circuitry.", 12 DRVL2 (out) "Synchronous low-side MOSFET driver output. PGND referenced drivers. The gate drive voltage is defined by V5IN voltage.", 13 PGND2 (power) "Ground returns for DRVL1 and DRVL2. Also serve as input of current comparators. Connect PGND1, PGND2, and GND strongly together near the IC. Output discharge current flows through this pin, also.", 14 TRIP2 (in) "Over-current trip point set input. Connect resistor from this pin to GND to set threshold for synchronous low-side RDS(on) sense. Voltage across this pin and GND is compared to voltage across PGND and LL at over-current (See Datasheet)", 15 V5FILT (power) "5-V power supply input for the entire control circuit except the MOSFET drivers. Connect RC low-pass filter from V5IN to V5FILT.", 16 V5IN (power) "5-V power supply input for FET gate drivers. Internally connected to VBSTx by PN diodes.", 17 TRIP1 (in) "Over-current trip point set input. Connect resistor from this pin to GND to set threshold for synchronous low-side RDS(on) sense. Voltage across this pin and GND is compared to voltage across PGND and LL at over-current (See Datasheet)", 18 PGND1 (power) "Ground returns for DRVL1 and DRVL2. Also serve as input of current comparators. Connect PGND1, PGND2, and GND strongly together near the IC. Output discharge current flows through this pin, also.", 19 DRVL1 (out) "Synchronous low-side MOSFET driver output. PGND referenced drivers. The gate drive voltage is defined by V5IN voltage.", 20 LL1 (power) "Switch node connections for high-side drivers return. Also serve as input to current comparators and input voltage monitor for on-time control circuitry.", 21 DRVH1 (out) "Synchronous high-side MOSFET driver output. LL node referenced floating drivers. The gate drive voltage is defined by the voltage across VBST to LL node flying capacitor.", 22 VBST1 (power) "Supply input for synchronous high-side MOSFET driver (Boost Terminal). Connect capacitor from this pin to respective LL terminals. An internal PN diode is connected between V5IN to each of these pins. User can add external (See Datasheet)", 23 EN1 (in) "Channel 1 enable pin. Connect to 5 V or 3.3 V to turn on SMPS", 24 PGOOD1 (oc) "Power Good window comparator open drain output for channel 1. Pull up with a resistor to 5 V, or appropriate signal voltage. Current capability is 5 mA. PGOOD goes high 0.5 ms after VFB comes within specified limits. Power (See Datasheet)", 25 EP "Exposed Thermal Pad."

## TPS64201DBVR
designator U?
Adjustable, up to 3 A, 95 % Efficient Step-Down Controller, 100 % Duty Cycle, 1.8 to 6.5 V, -40 to 85 degC, 6-pin SOT-23 (DBV), Green (RoHS & no Sb/Br); Manufacturer: Texas Instruments; PartNumber: TPS64201DBVR; Duty Cycle(Max)(%): 100; Iout(Max)(A): 3; Regulated Outputs(#): 1; Topology: Buck; Vin(Max)(V): 6.5; Vin(Min)(V): 1.8; Vout(Min)(V): 1.2; DatasheetVersion: SLVS485; PackageVersion: revK, Mar-2006; PackageReference: DBV6; PackageDescription: 6-Pin Plastic Small-Outline Package, 2.9 x 1.6 mm Body, 0.95 mm Pitch, 2.8 mm Lead Span; Supplier 1: Digi-Key; Supplier Part Number 1: TPS64201DBVR-ND; Eco-Plan: Green (RoHS & no Sb/Br); SubFamily: Step-Down Controller; Vout(Max)(V): 6.5; Mounting Technology: Surface Mount; Code_JEDEC: MO-178-AB*; ComponentLink1Description: Datasheet; ComponentLink1URL: http://www.ti.com/general/docs/lit/getliterature.tsp?genericPartNumber=TPS64201&fileType=pdf; ComponentLink2Description: Package Specification; ComponentLink2URL: http://www.ti.com/litv/pdf/mpds026h
footprint DBV6_N (SOT23, 6-Leads, Body 2.9x1.6mm, Pitch 0.95mm, Lead Span 2.8mm, IPC Medium Density)
footprint DBV6_L (SOT23, 6-Leads, Body 2.9x1.6mm, Pitch 0.95mm, Lead Span 2.8mm, IPC High Density)
footprint DBV6_M (SOT23, 6-Leads, Body 2.9x1.6mm, Pitch 0.95mm, Lead Span 2.8mm, IPC Low Density)
pins: 1 ~{EN} (in) "Enable. A logic low enables the converter, logic high forces the device into shutdown mode reducing the supply current to less than 1 uA.", 2 GND (power) "Ground", 3 FB (in) "Feedback pin. Connect an external voltage divider to this pin to set the output voltage", 4 ISENSE (in) "Current sense input. Connect the current sense resistor between VIN and ISENSE. (optional)", 5 VIN (power) "Supply voltage input", 6 SW (power) "This pin connects to the gate of an external P-channel MOSFET."

## TPS64201DBVRG4
designator U?
Adjustable, up to 3 A, 95 % Efficient Step-Down Controller, 100 % Duty Cycle, 1.8 to 6.5 V, -40 to 85 degC, 6-pin SOT-23 (DBV), Green (RoHS & no Sb/Br); Manufacturer: Texas Instruments; PartNumber: TPS64201DBVRG4; Duty Cycle(Max)(%): 100; Iout(Max)(A): 3; Regulated Outputs(#): 1; Topology: Buck; Vin(Max)(V): 6.5; Vin(Min)(V): 1.8; Vout(Min)(V): 1.2; DatasheetVersion: SLVS485; PackageVersion: revK, Mar-2006; PackageReference: DBV6; PackageDescription: 6-Pin Plastic Small-Outline Package, 2.9 x 1.6 mm Body, 0.95 mm Pitch, 2.8 mm Lead Span; Supplier 1: Digi-Key; Supplier Part Number 1: TPS64201DBVRG4-ND; Eco-Plan: Green (RoHS & no Sb/Br); SubFamily: Step-Down Controller; Vout(Max)(V): 6.5; Mounting Technology: Surface Mount; Code_JEDEC: MO-178-AB*; ComponentLink1Description: Datasheet; ComponentLink1URL: http://www.ti.com/general/docs/lit/getliterature.tsp?genericPartNumber=TPS64201&fileType=pdf; ComponentLink2Description: Package Specification; ComponentLink2URL: http://www.ti.com/litv/pdf/mpds026h
footprint DBV6_N (SOT23, 6-Leads, Body 2.9x1.6mm, Pitch 0.95mm, Lead Span 2.8mm, IPC Medium Density)
footprint DBV6_L (SOT23, 6-Leads, Body 2.9x1.6mm, Pitch 0.95mm, Lead Span 2.8mm, IPC High Density)
footprint DBV6_M (SOT23, 6-Leads, Body 2.9x1.6mm, Pitch 0.95mm, Lead Span 2.8mm, IPC Low Density)
pins: 1 ~{EN} (in) "Enable. A logic low enables the converter, logic high forces the device into shutdown mode reducing the supply current to less than 1 uA.", 2 GND (power) "Ground", 3 FB (in) "Feedback pin. Connect an external voltage divider to this pin to set the output voltage", 4 ISENSE (in) "Current sense input. Connect the current sense resistor between VIN and ISENSE. (optional)", 5 VIN (power) "Supply voltage input", 6 SW (power) "This pin connects to the gate of an external P-channel MOSFET."

## TPS64201DBVT
designator U?
Adjustable, up to 3 A, 95 % Efficient Step-Down Controller, 100 % Duty Cycle, 1.8 to 6.5 V, -40 to 85 degC, 6-pin SOT-23 (DBV), Green (RoHS & no Sb/Br); Manufacturer: Texas Instruments; PartNumber: TPS64201DBVT; Duty Cycle(Max)(%): 100; Iout(Max)(A): 3; Regulated Outputs(#): 1; Topology: Buck; Vin(Max)(V): 6.5; Vin(Min)(V): 1.8; Vout(Min)(V): 1.2; DatasheetVersion: SLVS485; PackageVersion: revK, Mar-2006; PackageReference: DBV6; PackageDescription: 6-Pin Plastic Small-Outline Package, 2.9 x 1.6 mm Body, 0.95 mm Pitch, 2.8 mm Lead Span; Supplier 1: Digi-Key; Supplier Part Number 1: 296-15705-2-ND; Eco-Plan: Green (RoHS & no Sb/Br); SubFamily: Step-Down Controller; Vout(Max)(V): 6.5; Mounting Technology: Surface Mount; Code_JEDEC: MO-178-AB*; ComponentLink1Description: Datasheet; ComponentLink1URL: http://www.ti.com/general/docs/lit/getliterature.tsp?genericPartNumber=TPS64201&fileType=pdf; ComponentLink2Description: Package Specification; ComponentLink2URL: http://www.ti.com/litv/pdf/mpds026h
footprint DBV6_N (SOT23, 6-Leads, Body 2.9x1.6mm, Pitch 0.95mm, Lead Span 2.8mm, IPC Medium Density)
footprint DBV6_L (SOT23, 6-Leads, Body 2.9x1.6mm, Pitch 0.95mm, Lead Span 2.8mm, IPC High Density)
footprint DBV6_M (SOT23, 6-Leads, Body 2.9x1.6mm, Pitch 0.95mm, Lead Span 2.8mm, IPC Low Density)
pins: 1 ~{EN} (in) "Enable. A logic low enables the converter, logic high forces the device into shutdown mode reducing the supply current to less than 1 uA.", 2 GND (power) "Ground", 3 FB (in) "Feedback pin. Connect an external voltage divider to this pin to set the output voltage", 4 ISENSE (in) "Current sense input. Connect the current sense resistor between VIN and ISENSE. (optional)", 5 VIN (power) "Supply voltage input", 6 SW (power) "This pin connects to the gate of an external P-channel MOSFET."

## TPS64201DBVTG4
designator U?
Adjustable, up to 3 A, 95 % Efficient Step-Down Controller, 100 % Duty Cycle, 1.8 to 6.5 V, -40 to 85 degC, 6-pin SOT-23 (DBV), Green (RoHS & no Sb/Br); Manufacturer: Texas Instruments; PartNumber: TPS64201DBVTG4; Duty Cycle(Max)(%): 100; Iout(Max)(A): 3; Regulated Outputs(#): 1; Topology: Buck; Vin(Max)(V): 6.5; Vin(Min)(V): 1.8; Vout(Min)(V): 1.2; DatasheetVersion: SLVS485; PackageVersion: revK, Mar-2006; PackageReference: DBV6; PackageDescription: 6-Pin Plastic Small-Outline Package, 2.9 x 1.6 mm Body, 0.95 mm Pitch, 2.8 mm Lead Span; Supplier 1: Digi-Key; Supplier Part Number 1: TPS64201DBVTG4-ND; Eco-Plan: Green (RoHS & no Sb/Br); SubFamily: Step-Down Controller; Vout(Max)(V): 6.5; Mounting Technology: Surface Mount; Code_JEDEC: MO-178-AB*; ComponentLink1Description: Datasheet; ComponentLink1URL: http://www.ti.com/general/docs/lit/getliterature.tsp?genericPartNumber=TPS64201&fileType=pdf; ComponentLink2Description: Package Specification; ComponentLink2URL: http://www.ti.com/litv/pdf/mpds026h
footprint DBV6_N (SOT23, 6-Leads, Body 2.9x1.6mm, Pitch 0.95mm, Lead Span 2.8mm, IPC Medium Density)
footprint DBV6_L (SOT23, 6-Leads, Body 2.9x1.6mm, Pitch 0.95mm, Lead Span 2.8mm, IPC High Density)
footprint DBV6_M (SOT23, 6-Leads, Body 2.9x1.6mm, Pitch 0.95mm, Lead Span 2.8mm, IPC Low Density)
pins: 1 ~{EN} (in) "Enable. A logic low enables the converter, logic high forces the device into shutdown mode reducing the supply current to less than 1 uA.", 2 GND (power) "Ground", 3 FB (in) "Feedback pin. Connect an external voltage divider to this pin to set the output voltage", 4 ISENSE (in) "Current sense input. Connect the current sense resistor between VIN and ISENSE. (optional)", 5 VIN (power) "Supply voltage input", 6 SW (power) "This pin connects to the gate of an external P-channel MOSFET."

## TPS64202DBVR
designator U?
Adjustable, up to 3 A, 95 % Efficient Step-Down Controller, 100 % Duty Cycle, 1.8 to 6.5 V, -40 to 85 degC, 6-pin SOT-23 (DBV), Green (RoHS & no Sb/Br); Manufacturer: Texas Instruments; PartNumber: TPS64202DBVR; Duty Cycle(Max)(%): 100; Iout(Max)(A): 3; Regulated Outputs(#): 1; Topology: Buck; Vin(Max)(V): 6.5; Vin(Min)(V): 1.8; Vout(Min)(V): 1.2; DatasheetVersion: SLVS485; PackageVersion: revK, Mar-2006; PackageReference: DBV6; PackageDescription: 6-Pin Plastic Small-Outline Package, 2.9 x 1.6 mm Body, 0.95 mm Pitch, 2.8 mm Lead Span; Supplier 1: Digi-Key; Supplier Part Number 1: 296-27035-2-ND; Eco-Plan: Green (RoHS & no Sb/Br); SubFamily: Step-Down Controller; Vout(Max)(V): 6.5; Mounting Technology: Surface Mount; Code_JEDEC: MO-178-AB*; ComponentLink1Description: Datasheet; ComponentLink1URL: http://www.ti.com/general/docs/lit/getliterature.tsp?genericPartNumber=TPS64202&fileType=pdf; ComponentLink2Description: Package Specification; ComponentLink2URL: http://www.ti.com/litv/pdf/mpds026h
footprint DBV6_N (SOT23, 6-Leads, Body 2.9x1.6mm, Pitch 0.95mm, Lead Span 2.8mm, IPC Medium Density)
footprint DBV6_L (SOT23, 6-Leads, Body 2.9x1.6mm, Pitch 0.95mm, Lead Span 2.8mm, IPC High Density)
footprint DBV6_M (SOT23, 6-Leads, Body 2.9x1.6mm, Pitch 0.95mm, Lead Span 2.8mm, IPC Low Density)
pins: 1 ~{EN} (in) "Enable. A logic low enables the converter, logic high forces the device into shutdown mode reducing the supply current to less than 1 uA.", 2 GND (power) "Ground", 3 FB (in) "Feedback pin. Connect an external voltage divider to this pin to set the output voltage", 4 ISENSE (in) "Current sense input. Connect the current sense resistor between VIN and ISENSE. (optional)", 5 VIN (power) "Supply voltage input", 6 SW (power) "This pin connects to the gate of an external P-channel MOSFET"

## TPS64202DBVRG4
designator U?
Adjustable, up to 3 A, 95 % Efficient Step-Down Controller, 100 % Duty Cycle, 1.8 to 6.5 V, -40 to 85 degC, 6-pin SOT-23 (DBV), Green (RoHS & no Sb/Br); Manufacturer: Texas Instruments; PartNumber: TPS64202DBVRG4; Duty Cycle(Max)(%): 100; Iout(Max)(A): 3; Regulated Outputs(#): 1; Topology: Buck; Vin(Max)(V): 6.5; Vin(Min)(V): 1.8; Vout(Min)(V): 1.2; DatasheetVersion: SLVS485; PackageVersion: revK, Mar-2006; PackageReference: DBV6; PackageDescription: 6-Pin Plastic Small-Outline Package, 2.9 x 1.6 mm Body, 0.95 mm Pitch, 2.8 mm Lead Span; Supplier 1: Digi-Key; Supplier Part Number 1: TPS64202DBVRG4-ND; Eco-Plan: Green (RoHS & no Sb/Br); SubFamily: Step-Down Controller; Vout(Max)(V): 6.5; Mounting Technology: Surface Mount; Code_JEDEC: MO-178-AB*; ComponentLink1Description: Datasheet; ComponentLink1URL: http://www.ti.com/general/docs/lit/getliterature.tsp?genericPartNumber=TPS64202&fileType=pdf; ComponentLink2Description: Package Specification; ComponentLink2URL: http://www.ti.com/litv/pdf/mpds026h
footprint DBV6_N (SOT23, 6-Leads, Body 2.9x1.6mm, Pitch 0.95mm, Lead Span 2.8mm, IPC Medium Density)
footprint DBV6_L (SOT23, 6-Leads, Body 2.9x1.6mm, Pitch 0.95mm, Lead Span 2.8mm, IPC High Density)
footprint DBV6_M (SOT23, 6-Leads, Body 2.9x1.6mm, Pitch 0.95mm, Lead Span 2.8mm, IPC Low Density)
pins: 1 ~{EN} (in) "Enable. A logic low enables the converter, logic high forces the device into shutdown mode reducing the supply current to less than 1 uA.", 2 GND (power) "Ground", 3 FB (in) "Feedback pin. Connect an external voltage divider to this pin to set the output voltage", 4 ISENSE (in) "Current sense input. Connect the current sense resistor between VIN and ISENSE. (optional)", 5 VIN (power) "Supply voltage input", 6 SW (power) "This pin connects to the gate of an external P-channel MOSFET"

## TPS64202DBVT
designator U?
Adjustable, up to 3 A, 95 % Efficient Step-Down Controller, 100 % Duty Cycle, 1.8 to 6.5 V, -40 to 85 degC, 6-pin SOT-23 (DBV), Green (RoHS & no Sb/Br); Manufacturer: Texas Instruments; PartNumber: TPS64202DBVT; Duty Cycle(Max)(%): 100; Iout(Max)(A): 3; Regulated Outputs(#): 1; Topology: Buck; Vin(Max)(V): 6.5; Vin(Min)(V): 1.8; Vout(Min)(V): 1.2; DatasheetVersion: SLVS485; PackageVersion: revK, Mar-2006; PackageReference: DBV6; PackageDescription: 6-Pin Plastic Small-Outline Package, 2.9 x 1.6 mm Body, 0.95 mm Pitch, 2.8 mm Lead Span; Supplier 1: Digi-Key; Supplier Part Number 1: 296-15706-2-ND; Eco-Plan: Green (RoHS & no Sb/Br); SubFamily: Step-Down Controller; Vout(Max)(V): 6.5; Mounting Technology: Surface Mount; Code_JEDEC: MO-178-AB*; ComponentLink1Description: Datasheet; ComponentLink1URL: http://www.ti.com/general/docs/lit/getliterature.tsp?genericPartNumber=TPS64202&fileType=pdf; ComponentLink2Description: Package Specification; ComponentLink2URL: http://www.ti.com/litv/pdf/mpds026h
footprint DBV6_N (SOT23, 6-Leads, Body 2.9x1.6mm, Pitch 0.95mm, Lead Span 2.8mm, IPC Medium Density)
footprint DBV6_L (SOT23, 6-Leads, Body 2.9x1.6mm, Pitch 0.95mm, Lead Span 2.8mm, IPC High Density)
footprint DBV6_M (SOT23, 6-Leads, Body 2.9x1.6mm, Pitch 0.95mm, Lead Span 2.8mm, IPC Low Density)
pins: 1 ~{EN} (in) "Enable. A logic low enables the converter, logic high forces the device into shutdown mode reducing the supply current to less than 1 uA.", 2 GND (power) "Ground", 3 FB (in) "Feedback pin. Connect an external voltage divider to this pin to set the output voltage", 4 ISENSE (in) "Current sense input. Connect the current sense resistor between VIN and ISENSE. (optional)", 5 VIN (power) "Supply voltage input", 6 SW (power) "This pin connects to the gate of an external P-channel MOSFET"